# Altium schematic symbol library TSL2671.Schlib: 1 symbol
Pins are listed as number, name and electrical type; pins without a type are passive.

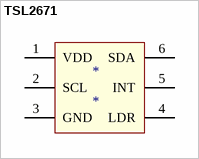
[diagram p0: symbol TSL2671]

## TSL2671
designator *
pins: 1 VDD, 2 SCL, 3 GND, 4 LDR, 5 INT, 6 SDA